# EAGLE library part FH26-25S-0.3SHW (library MyLibrary)
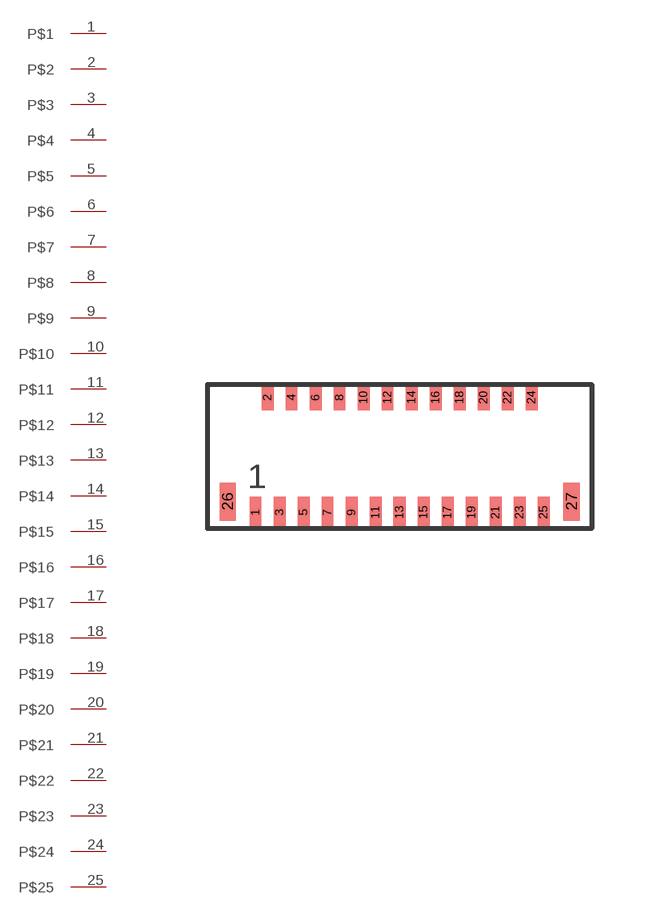
[diagram p16: symbol with the pads of FH26-25S-0.3SHW; footprint FH26-25S-0.3SHW]

Designator prefix -

## FH26-25S-0.3SHW  [FH26-25S-0.3SHW]
1  P$1
2  P$2
3  P$3
4  P$4
5  P$5
6  P$6
7  P$7
8  P$8
9  P$9
10  P$10
11  P$11
12  P$12
13  P$13
14  P$14
15  P$15
16  P$16
17  P$17
18  P$18
19  P$19
20  P$20
21  P$21
22  P$22
23  P$23
24  P$24
25  P$25

## Footprint FH26-25S-0.3SHW (pad centres in mm)
smd 0.3 x 0.8: 1 -3.6,-1.4; 3 -3,-1.4; 5 -2.4,-1.4; 7 -1.8,-1.4; 9 -1.2,-1.4; 11 -0.6,-1.4; 13 0,-1.4; 15 0.6,-1.4; 17 1.2,-1.4; 19 1.8,-1.4; 21 2.4,-1.4; 23 3,-1.4; 25 3.6,-1.4
smd 0.3 x 0.65: 2 -3.3,1.475; 4 -2.7,1.475; 6 -2.1,1.475; 8 -1.5,1.475; 10 -0.9,1.475; 12 -0.3,1.475; 14 0.3,1.475; 16 0.9,1.475; 18 1.5,1.475; 20 2.1,1.475; 22 2.7,1.475; 24 3.3,1.475
smd 0.4 x 0.95: 26 -4.3,-1.125; 27 4.3,-1.125